# Altium integrated library ON Semi Logic Translator.IntLib: 79 symbols (part 2 of 2)
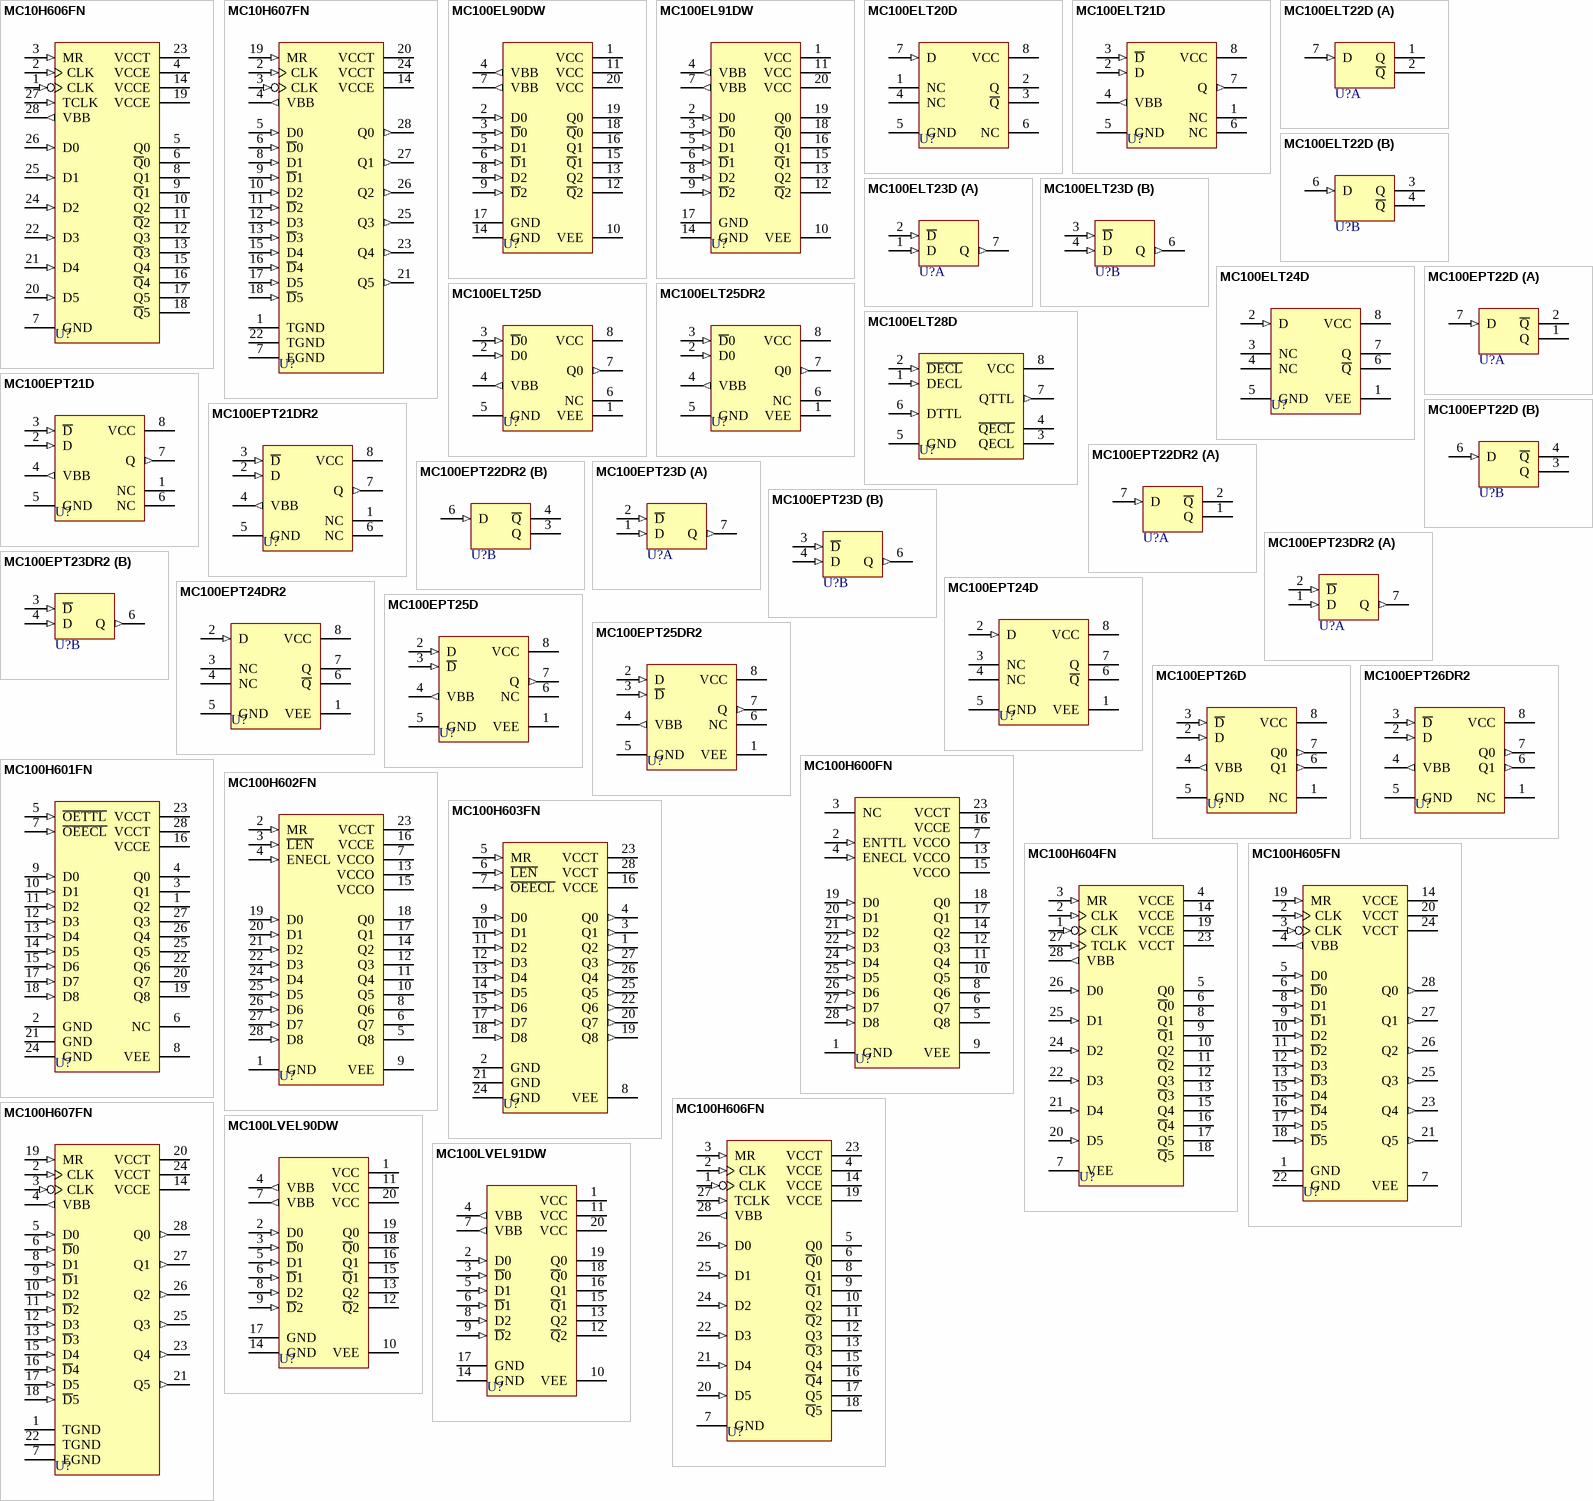
[diagram p3: symbols MC10H606FN to MC100LVEL91DW]

## MC100EPT23DR2
designator U?
Dual Differential LVPECL to LVTTL Translator; Published: 15-Apr-2002; LatestRevisionDate: 13-Apr-2006; LatestRevisionNote: IPC-7351 Footprint Added.; DatasheetVersion: Sep-1999; PackageVersion: Sep-1999; PackageReference: 751-06; Publisher: Altium Limited; PackageDescription: 8-Pin Small Outline Integrated Circuit 1.27 mm Pitch; Code_JEDEC: MS-012-AA; Code_IPC: SOIC127P600-8; ComponentLink1Description: Manufacturer Link; ComponentLink1URL: http://www.onsemi.com/; ComponentLink2Description: Datasheet; ComponentLink2URL: http://www.onsemi.com/pub/Collateral/MC100EPT23-D.PDF
footprint 751-06_N (SOIC, 8-Leads, Body 4.9x3.9mm, Pitch 1.27mm, IPC Medium Density)
footprint 751-06_L (SOIC, 8-Leads, Body 4.9x3.9mm, Pitch 1.27mm, IPC High Density)
footprint 751-06_M (SOIC, 8-Leads, Body 4.9x3.9mm, Pitch 1.27mm, IPC Low Density)
pins on every part: 5 GND (power) hidden to GND, 8 VCC (power) hidden to VCC
part A pins: 1 D (in), 2 ~{D} (in), 7 Q (out)
part B pins: 3 ~{D} (in), 4 D (in), 6 Q (out)

## MC100EPT24D
designator U?
LVTTL/LVCMOS to Differential LVECL Translator; Published: 15-Apr-2002; LatestRevisionDate: 13-Apr-2006; LatestRevisionNote: IPC-7351 Footprint Added.; DatasheetVersion: Dec-1999; PackageVersion: Sep-1999; PackageReference: 751-06; Publisher: Altium Limited; PackageDescription: 8-Pin Small Outline Integrated Circuit 1.27 mm Pitch; Code_JEDEC: MS-012-AA; Code_IPC: SOIC127P600-8; ComponentLink1Description: Manufacturer Link; ComponentLink1URL: http://www.onsemi.com/; ComponentLink2Description: Datasheet; ComponentLink2URL: http://www.onsemi.com/pub/Collateral/MC100EPT24-D.PDF
footprint 751-06_N (SOIC, 8-Leads, Body 4.9x3.9mm, Pitch 1.27mm, IPC Medium Density)
footprint 751-06_L (SOIC, 8-Leads, Body 4.9x3.9mm, Pitch 1.27mm, IPC High Density)
footprint 751-06_M (SOIC, 8-Leads, Body 4.9x3.9mm, Pitch 1.27mm, IPC Low Density)
pins: 1 VEE (power), 2 D (in), 3 NC, 4 NC, 5 GND (power), 6 ~{Q} (oe), 7 Q (oe), 8 VCC (power)

## MC100EPT24DR2
designator U?
LVTTL/LVCMOS to Differential LVECL Translator; Published: 15-Apr-2002; LatestRevisionDate: 13-Apr-2006; LatestRevisionNote: IPC-7351 Footprint Added.; DatasheetVersion: Dec-1999; PackageVersion: Sep-1999; PackageReference: 751-06; Publisher: Altium Limited; PackageDescription: 8-Pin Small Outline Integrated Circuit 1.27 mm Pitch; Code_JEDEC: MS-012-AA; Code_IPC: SOIC127P600-8; ComponentLink1Description: Manufacturer Link; ComponentLink1URL: http://www.onsemi.com/; ComponentLink2Description: Datasheet; ComponentLink2URL: http://www.onsemi.com/pub/Collateral/MC100EPT24-D.PDF
footprint 751-06_N (SOIC, 8-Leads, Body 4.9x3.9mm, Pitch 1.27mm, IPC Medium Density)
footprint 751-06_L (SOIC, 8-Leads, Body 4.9x3.9mm, Pitch 1.27mm, IPC High Density)
footprint 751-06_M (SOIC, 8-Leads, Body 4.9x3.9mm, Pitch 1.27mm, IPC Low Density)
pins: 1 VEE (power), 2 D (in), 3 NC, 4 NC, 5 GND (power), 6 ~{Q} (oe), 7 Q (oe), 8 VCC (power)

## MC100EPT25D
designator U?
Differential LVECL/ECL to LVTTL Translator; Published: 15-Apr-2002; LatestRevisionDate: 13-Apr-2006; LatestRevisionNote: IPC-7351 Footprint Added.; DatasheetVersion: Dec-1999; PackageVersion: Sep-1999; PackageReference: 751-06; Publisher: Altium Limited; PackageDescription: 8-Pin Small Outline Integrated Circuit 1.27 mm Pitch; Code_JEDEC: MS-012-AA; Code_IPC: SOIC127P600-8; ComponentLink1Description: Manufacturer Link; ComponentLink1URL: http://www.onsemi.com/; ComponentLink2Description: Datasheet; ComponentLink2URL: http://www.onsemi.com/pub/Collateral/MC100EPT25-D.PDF
footprint 751-06_N (SOIC, 8-Leads, Body 4.9x3.9mm, Pitch 1.27mm, IPC Medium Density)
footprint 751-06_L (SOIC, 8-Leads, Body 4.9x3.9mm, Pitch 1.27mm, IPC High Density)
footprint 751-06_M (SOIC, 8-Leads, Body 4.9x3.9mm, Pitch 1.27mm, IPC Low Density)
pins: 1 VEE (power), 2 D (in), 3 ~{D} (in), 4 VBB (out), 5 GND (power), 6 NC, 7 Q (out), 8 VCC (power)

## MC100EPT25DR2
designator U?
Differential LVECL/ECL to LVTTL Translator; Published: 15-Apr-2002; LatestRevisionDate: 13-Apr-2006; LatestRevisionNote: IPC-7351 Footprint Added.; DatasheetVersion: Dec-1999; PackageVersion: Sep-1999; PackageReference: 751-06; Publisher: Altium Limited; PackageDescription: 8-Pin Small Outline Integrated Circuit 1.27 mm Pitch; Code_JEDEC: MS-012-AA; Code_IPC: SOIC127P600-8; ComponentLink1Description: Manufacturer Link; ComponentLink1URL: http://www.onsemi.com/; ComponentLink2Description: Datasheet; ComponentLink2URL: http://www.onsemi.com/pub/Collateral/MC100EPT25-D.PDF
footprint 751-06_N (SOIC, 8-Leads, Body 4.9x3.9mm, Pitch 1.27mm, IPC Medium Density)
footprint 751-06_L (SOIC, 8-Leads, Body 4.9x3.9mm, Pitch 1.27mm, IPC High Density)
footprint 751-06_M (SOIC, 8-Leads, Body 4.9x3.9mm, Pitch 1.27mm, IPC Low Density)
pins: 1 VEE (power), 2 D (in), 3 ~{D} (in), 4 VBB (out), 5 GND (power), 6 NC, 7 Q (out), 8 VCC (power)

## MC100EPT26D
designator U?
1:2 Fanout Differential LVPECL to LVTTL Translator; Published: 15-Apr-2002; LatestRevisionDate: 13-Apr-2006; LatestRevisionNote: IPC-7351 Footprint Added.; DatasheetVersion: Sep-1999; PackageVersion: Sep-1999; PackageReference: 751-06; Publisher: Altium Limited; PackageDescription: 8-Pin Small Outline Integrated Circuit 1.27 mm Pitch; Code_JEDEC: MS-012-AA; Code_IPC: SOIC127P600-8; ComponentLink1Description: Manufacturer Link; ComponentLink1URL: http://www.onsemi.com/; ComponentLink2Description: Datasheet; ComponentLink2URL: http://www.onsemi.com/pub/Collateral/MC100EPT26-D.PDF
footprint 751-06_N (SOIC, 8-Leads, Body 4.9x3.9mm, Pitch 1.27mm, IPC Medium Density)
footprint 751-06_L (SOIC, 8-Leads, Body 4.9x3.9mm, Pitch 1.27mm, IPC High Density)
footprint 751-06_M (SOIC, 8-Leads, Body 4.9x3.9mm, Pitch 1.27mm, IPC Low Density)
pins: 1 NC, 2 D (in), 3 ~{D} (in), 4 VBB (out), 5 GND (power), 6 Q1 (out), 7 Q0 (out), 8 VCC (power)

## MC100EPT26DR2
designator U?
1:2 Fanout Differential LVPECL to LVTTL Translator; Published: 15-Apr-2002; LatestRevisionDate: 13-Apr-2006; LatestRevisionNote: IPC-7351 Footprint Added.; DatasheetVersion: Sep-1999; PackageVersion: Sep-1999; PackageReference: 751-06; Publisher: Altium Limited; PackageDescription: 8-Pin Small Outline Integrated Circuit 1.27 mm Pitch; Code_JEDEC: MS-012-AA; Code_IPC: SOIC127P600-8; ComponentLink1Description: Manufacturer Link; ComponentLink1URL: http://www.onsemi.com/; ComponentLink2Description: Datasheet; ComponentLink2URL: http://www.onsemi.com/pub/Collateral/MC100EPT26-D.PDF
footprint 751-06_N (SOIC, 8-Leads, Body 4.9x3.9mm, Pitch 1.27mm, IPC Medium Density)
footprint 751-06_L (SOIC, 8-Leads, Body 4.9x3.9mm, Pitch 1.27mm, IPC High Density)
footprint 751-06_M (SOIC, 8-Leads, Body 4.9x3.9mm, Pitch 1.27mm, IPC Low Density)
pins: 1 NC, 2 D (in), 3 ~{D} (in), 4 VBB (out), 5 GND (power), 6 Q1 (out), 7 Q0 (out), 8 VCC (power)

## MC100H600FN
designator U?
9-Bit TTL-ECL Translator; Published: 15-Apr-2002; LatestRevisionDate: 13-Apr-2006; LatestRevisionNote: IPC-7351 Footprint Added.; DatasheetVersion: 1996; PackageVersion: Feb-2000; PackageReference: 776-02; Publisher: Altium Limited; PackageDescription: 28-Pin Leaded Chip Carrier 1.27 mm Pitch; ComponentLink1Description: Manufacturer Link; ComponentLink1URL: http://www.onsemi.com/; ComponentLink2Description: Datasheet; ComponentLink2URL: http://www.onsemi.com/pub/Collateral/MC10H600-D.PDF
footprint 776-02_N (Leaded Chip Carrier, 28-Leads, Body 11.5x11.5mm, Pitch 1.27mm, IPC Medium Density)
footprint 776-02_L (Leaded Chip Carrier, 28-Leads, Body 11.5x11.5mm, Pitch 1.27mm, IPC High Density)
footprint 776-02_M (Leaded Chip Carrier, 28-Leads, Body 11.5x11.5mm, Pitch 1.27mm, IPC Low Density)
pins: 1 GND (power), 2 ENTTL (in), 3 NC, 4 ENECL (in), 5 Q8 (oe), 6 Q7 (oe), 7 VCCO (power), 8 Q6 (oe), 9 VEE (power), 10 Q5 (oe), 11 Q4 (oe), 12 Q3 (oe), 13 VCCO (power), 14 Q2 (oe), 15 VCCO (power), 16 VCCE (power), 17 Q1 (oe), 18 Q0 (oe), 19 D0 (in), 20 D1 (in), 21 D2 (in), 22 D3 (in), 23 VCCT (power), 24 D4 (in), 25 D5 (in), 26 D6 (in), 27 D7 (in), 28 D8 (in)

## MC100H601FN
designator U?
9-Bit ECL-TTL Translator; Published: 15-Apr-2002; LatestRevisionDate: 13-Apr-2006; LatestRevisionNote: IPC-7351 Footprint Added.; DatasheetVersion: 1997; PackageVersion: Feb-2000; PackageReference: 776-02; Publisher: Altium Limited; PackageDescription: 28-Pin Leaded Chip Carrier 1.27 mm Pitch; ComponentLink1Description: Manufacturer Link; ComponentLink1URL: http://www.onsemi.com/; ComponentLink2Description: Datasheet; ComponentLink2URL: http://www.onsemi.com/pub/Collateral/MC10H601-D.PDF
footprint 776-02_N (Leaded Chip Carrier, 28-Leads, Body 11.5x11.5mm, Pitch 1.27mm, IPC Medium Density)
footprint 776-02_L (Leaded Chip Carrier, 28-Leads, Body 11.5x11.5mm, Pitch 1.27mm, IPC High Density)
footprint 776-02_M (Leaded Chip Carrier, 28-Leads, Body 11.5x11.5mm, Pitch 1.27mm, IPC Low Density)
pins: 1 Q2 (hiz), 2 GND (power), 3 Q1 (hiz), 4 Q0 (hiz), 5 ~{OETTL} (in), 6 NC, 7 ~{OEECL} (in), 8 VEE (power), 9 D0 (in), 10 D1 (in), 11 D2 (in), 12 D3 (in), 13 D4 (in), 14 D5 (in), 15 D6 (in), 16 VCCE (power), 17 D7 (in), 18 D8 (in), 19 Q8 (hiz), 20 Q7 (hiz), 21 GND (power), 22 Q6 (hiz), 23 VCCT (power), 24 GND (power), 25 Q5 (hiz), 26 Q4 (hiz), 27 Q3 (hiz), 28 VCCT (power)

## MC100H602FN
designator U?
9-Bit Latch/TTL-ECL Translator; Published: 15-Apr-2002; LatestRevisionDate: 13-Apr-2006; LatestRevisionNote: IPC-7351 Footprint Added.; DatasheetVersion: 1996; PackageVersion: Feb-2000; PackageReference: 776-02; Publisher: Altium Limited; PackageDescription: 28-Pin Leaded Chip Carrier 1.27 mm Pitch; ComponentLink1Description: Manufacturer Link; ComponentLink1URL: http://www.onsemi.com/; ComponentLink2Description: Datasheet; ComponentLink2URL: http://www.onsemi.com/pub/Collateral/MC10H602-D.PDF
footprint 776-02_N (Leaded Chip Carrier, 28-Leads, Body 11.5x11.5mm, Pitch 1.27mm, IPC Medium Density)
footprint 776-02_L (Leaded Chip Carrier, 28-Leads, Body 11.5x11.5mm, Pitch 1.27mm, IPC High Density)
footprint 776-02_M (Leaded Chip Carrier, 28-Leads, Body 11.5x11.5mm, Pitch 1.27mm, IPC Low Density)
pins: 1 GND (power), 2 MR (in), 3 ~{LEN} (in), 4 ENECL (in), 5 Q8 (oe), 6 Q7 (oe), 7 VCCO (power), 8 Q6 (oe), 9 VEE (power), 10 Q5 (oe), 11 Q4 (oe), 12 Q3 (oe), 13 VCCO (power), 14 Q2 (oe), 15 VCCO (power), 16 VCCE (power), 17 Q1 (oe), 18 Q0 (oe), 19 D0 (in), 20 D1 (in), 21 D2 (in), 22 D3 (in), 23 VCCT (power), 24 D4 (in), 25 D5 (in), 26 D6 (in), 27 D7 (in), 28 D8 (in)

## MC100H603FN
designator U?
9-Bit Latch/ECL-TTL Translator; Published: 15-Apr-2002; LatestRevisionDate: 13-Apr-2006; LatestRevisionNote: IPC-7351 Footprint Added.; DatasheetVersion: 1996; PackageVersion: Feb-2000; PackageReference: 776-02; Publisher: Altium Limited; PackageDescription: 28-Pin Leaded Chip Carrier 1.27 mm Pitch; ComponentLink1Description: Manufacturer Link; ComponentLink1URL: http://www.onsemi.com/; ComponentLink2Description: Datasheet; ComponentLink2URL: http://www.onsemi.com/pub/Collateral/MC10H603-D.PDF
footprint 776-02_N (Leaded Chip Carrier, 28-Leads, Body 11.5x11.5mm, Pitch 1.27mm, IPC Medium Density)
footprint 776-02_L (Leaded Chip Carrier, 28-Leads, Body 11.5x11.5mm, Pitch 1.27mm, IPC High Density)
footprint 776-02_M (Leaded Chip Carrier, 28-Leads, Body 11.5x11.5mm, Pitch 1.27mm, IPC Low Density)
pins: 1 Q2 (out), 2 GND (power), 3 Q1 (out), 4 Q0 (out), 5 MR (in), 6 ~{LEN} (in), 7 ~{OEECL} (in), 8 VEE (power), 9 D0 (in), 10 D1 (in), 11 D2 (in), 12 D3 (in), 13 D4 (in), 14 D5 (in), 15 D6 (in), 16 VCCE (power), 17 D7 (in), 18 D8 (in), 19 Q8 (out), 20 Q7 (out), 21 GND (power), 22 Q6 (out), 23 VCCT (power), 24 GND (power), 25 Q5 (out), 26 Q4 (out), 27 Q3 (out), 28 VCCT (power)

## MC100H604FN
designator U?
Registered Hex TTL/ECL Translator; Published: 15-Apr-2002; LatestRevisionDate: 13-Apr-2006; LatestRevisionNote: IPC-7351 Footprint Added.; DatasheetVersion: 1996; PackageVersion: Feb-2000; PackageReference: 776-02; Publisher: Altium Limited; PackageDescription: 28-Pin Leaded Chip Carrier 1.27 mm Pitch; ComponentLink1Description: Manufacturer Link; ComponentLink1URL: http://www.onsemi.com/; ComponentLink2Description: Datasheet; ComponentLink2URL: http://www.onsemi.com/pub/Collateral/MC10H604-D.PDF
footprint 776-02_N (Leaded Chip Carrier, 28-Leads, Body 11.5x11.5mm, Pitch 1.27mm, IPC Medium Density)
footprint 776-02_L (Leaded Chip Carrier, 28-Leads, Body 11.5x11.5mm, Pitch 1.27mm, IPC High Density)
footprint 776-02_M (Leaded Chip Carrier, 28-Leads, Body 11.5x11.5mm, Pitch 1.27mm, IPC Low Density)
pins: 1 CLK (in), 2 CLK (in), 3 MR (in), 4 VCCE (power), 5 Q0 (oe), 6 ~{Q}0 (oe), 7 VEE (power), 8 Q1 (oe), 9 ~{Q}1 (oe), 10 Q2 (oe), 11 ~{Q}2 (oe), 12 Q3 (oe), 13 ~{Q}3 (oe), 14 VCCE (power), 15 Q4 (oe), 16 ~{Q}4 (oe), 17 Q5 (oe), 18 ~{Q}5 (oe), 19 VCCE (power), 20 D5 (in), 21 D4 (in), 22 D3 (in), 23 VCCT (power), 24 D2 (in), 25 D1 (in), 26 D0 (in), 27 TCLK (in), 28 VBB (out)

## MC100H605FN
designator U?
Registered Hex ECL/TTL Translator; Published: 15-Apr-2002; LatestRevisionDate: 13-Apr-2006; LatestRevisionNote: IPC-7351 Footprint Added.; DatasheetVersion: 1996; PackageVersion: Feb-2000; PackageReference: 776-02; Publisher: Altium Limited; PackageDescription: 28-Pin Leaded Chip Carrier 1.27 mm Pitch; ComponentLink1Description: Manufacturer Link; ComponentLink1URL: http://www.onsemi.com/; ComponentLink2Description: Datasheet; ComponentLink2URL: http://www.onsemi.com/pub/Collateral/MC10H605-D.PDF
footprint 776-02_N (Leaded Chip Carrier, 28-Leads, Body 11.5x11.5mm, Pitch 1.27mm, IPC Medium Density)
footprint 776-02_L (Leaded Chip Carrier, 28-Leads, Body 11.5x11.5mm, Pitch 1.27mm, IPC High Density)
footprint 776-02_M (Leaded Chip Carrier, 28-Leads, Body 11.5x11.5mm, Pitch 1.27mm, IPC Low Density)
pins: 1 GND (power), 2 CLK (in), 3 CLK (in), 4 VBB (out), 5 D0 (in), 6 ~{D}0 (in), 7 VEE (power), 8 D1 (in), 9 ~{D}1 (in), 10 D2 (in), 11 ~{D}2 (in), 12 D3 (in), 13 ~{D}3 (in), 14 VCCE (power), 15 D4 (in), 16 ~{D}4 (in), 17 D5 (in), 18 ~{D}5 (in), 19 MR (in), 20 VCCT (power), 21 Q5 (out), 22 GND (power), 23 Q4 (out), 24 VCCT (power), 25 Q3 (out), 26 Q2 (out), 27 Q1 (out), 28 Q0 (out)

## MC100H606FN
designator U?
Registered Hex TTL/PECL Translator; Published: 15-Apr-2002; LatestRevisionDate: 13-Apr-2006; LatestRevisionNote: IPC-7351 Footprint Added.; DatasheetVersion: 1996; PackageVersion: Feb-2000; PackageReference: 776-02; Publisher: Altium Limited; PackageDescription: 28-Pin Leaded Chip Carrier 1.27 mm Pitch; ComponentLink1Description: Manufacturer Link; ComponentLink1URL: http://www.onsemi.com/; ComponentLink2Description: Datasheet; ComponentLink2URL: http://www.onsemi.com/pub/Collateral/MC10H606-D.PDF
footprint 776-02_N (Leaded Chip Carrier, 28-Leads, Body 11.5x11.5mm, Pitch 1.27mm, IPC Medium Density)
footprint 776-02_L (Leaded Chip Carrier, 28-Leads, Body 11.5x11.5mm, Pitch 1.27mm, IPC High Density)
footprint 776-02_M (Leaded Chip Carrier, 28-Leads, Body 11.5x11.5mm, Pitch 1.27mm, IPC Low Density)
pins: 1 CLK (in), 2 CLK (in), 3 MR (in), 4 VCCE (power), 5 Q0 (oe), 6 ~{Q}0 (oe), 7 GND (power), 8 Q1 (oe), 9 ~{Q}1 (oe), 10 Q2 (oe), 11 ~{Q}2 (oe), 12 Q3 (oe), 13 ~{Q}3 (oe), 14 VCCE (power), 15 Q4 (oe), 16 ~{Q}4 (oe), 17 Q5 (oe), 18 ~{Q}5 (oe), 19 VCCE (power), 20 D5 (in), 21 D4 (in), 22 D3 (in), 23 VCCT (power), 24 D2 (in), 25 D1 (in), 26 D0 (in), 27 TCLK (in), 28 VBB (out)

## MC100H607FN
designator U?
Registered Hex PECL/TTL Translator; Published: 15-Apr-2002; LatestRevisionDate: 13-Apr-2006; LatestRevisionNote: IPC-7351 Footprint Added.; DatasheetVersion: 1996; PackageVersion: Feb-2000; PackageReference: 776-02; Publisher: Altium Limited; PackageDescription: 28-Pin Leaded Chip Carrier 1.27 mm Pitch; ComponentLink1Description: Manufacturer Link; ComponentLink1URL: http://www.onsemi.com/; ComponentLink2Description: Datasheet; ComponentLink2URL: http://www.onsemi.com/pub/Collateral/MC10H607-D.PDF
footprint 776-02_N (Leaded Chip Carrier, 28-Leads, Body 11.5x11.5mm, Pitch 1.27mm, IPC Medium Density)
footprint 776-02_L (Leaded Chip Carrier, 28-Leads, Body 11.5x11.5mm, Pitch 1.27mm, IPC High Density)
footprint 776-02_M (Leaded Chip Carrier, 28-Leads, Body 11.5x11.5mm, Pitch 1.27mm, IPC Low Density)
pins: 1 TGND (power), 2 CLK (in), 3 CLK (in), 4 VBB (out), 5 D0 (in), 6 ~{D}0 (in), 7 EGND (power), 8 D1 (in), 9 ~{D}1 (in), 10 D2 (in), 11 ~{D}2 (in), 12 D3 (in), 13 ~{D}3 (in), 14 VCCE (power), 15 D4 (in), 16 ~{D}4 (in), 17 D5 (in), 18 ~{D}5 (in), 19 MR (in), 20 VCCT (power), 21 Q5 (out), 22 TGND (power), 23 Q4 (out), 24 VCCT (power), 25 Q3 (out), 26 Q2 (out), 27 Q1 (out), 28 Q0 (out)

## MC100LVEL90DW
designator U?
Triple ECL to PECL Translator; Published: 15-Apr-2002; LatestRevisionDate: 13-Apr-2006; LatestRevisionNote: IPC-7351 Footprint Added.; DatasheetVersion: 1996; PackageReference: 751D-04; Publisher: Altium Limited; PackageDescription: 20-Pin Small Outline Integrated Circuit 1.27 mm Pitch; ComponentLink1Description: Manufacturer Link; ComponentLink1URL: http://www.onsemi.com/; ComponentLink2Description: Datasheet; ComponentLink2URL: http://www.onsemi.com/pub/Collateral/MC100LVEL90-D.PDF
footprint 751D-04_N (SOIC, 20-Leads, Body 12.8x7.5mm, Pitch 1.27mm, IPC Medium Density)
footprint 751D-04_L (SOIC, 20-Leads, Body 12.8x7.5mm, Pitch 1.27mm, IPC High Density)
footprint 751D-04_M (SOIC, 20-Leads, Body 12.8x7.5mm, Pitch 1.27mm, IPC Low Density)
pins: 1 VCC (power), 2 D0 (in), 3 ~{D}0 (in), 4 VBB (out), 5 D1 (in), 6 ~{D}1 (in), 7 VBB (out), 8 D2 (in), 9 ~{D}2 (in), 10 VEE (power), 11 VCC (power), 12 ~{Q}2 (oe), 13 Q2 (oe), 14 GND (power), 15 ~{Q}1 (oe), 16 Q1 (oe), 17 GND (power), 18 ~{Q}0 (oe), 19 Q0 (oe), 20 VCC (power)

## MC100LVEL91DW
designator U?
Triple PECL to ECL Translator; Published: 15-Apr-2002; LatestRevisionDate: 13-Apr-2006; LatestRevisionNote: IPC-7351 Footprint Added.; DatasheetVersion: 1997; PackageReference: 751D-04; Publisher: Altium Limited; PackageDescription: 20-Pin Small Outline Integrated Circuit 1.27 mm Pitch; ComponentLink1Description: Manufacturer Link; ComponentLink1URL: http://www.onsemi.com/; ComponentLink2Description: Datasheet; ComponentLink2URL: http://www.onsemi.com/pub/Collateral/MC100LVEL91-D.PDF
footprint 751D-04_N (SOIC, 20-Leads, Body 12.8x7.5mm, Pitch 1.27mm, IPC Medium Density)
footprint 751D-04_L (SOIC, 20-Leads, Body 12.8x7.5mm, Pitch 1.27mm, IPC High Density)
footprint 751D-04_M (SOIC, 20-Leads, Body 12.8x7.5mm, Pitch 1.27mm, IPC Low Density)
pins: 1 VCC (power), 2 D0 (in), 3 ~{D}0 (in), 4 VBB (out), 5 D1 (in), 6 ~{D}1 (in), 7 VBB (out), 8 D2 (in), 9 ~{D}2 (in), 10 VEE (power), 11 VCC (power), 12 ~{Q}2 (oe), 13 Q2 (oe), 14 GND (power), 15 ~{Q}1 (oe), 16 Q1 (oe), 17 GND (power), 18 ~{Q}0 (oe), 19 Q0 (oe), 20 VCC (power)

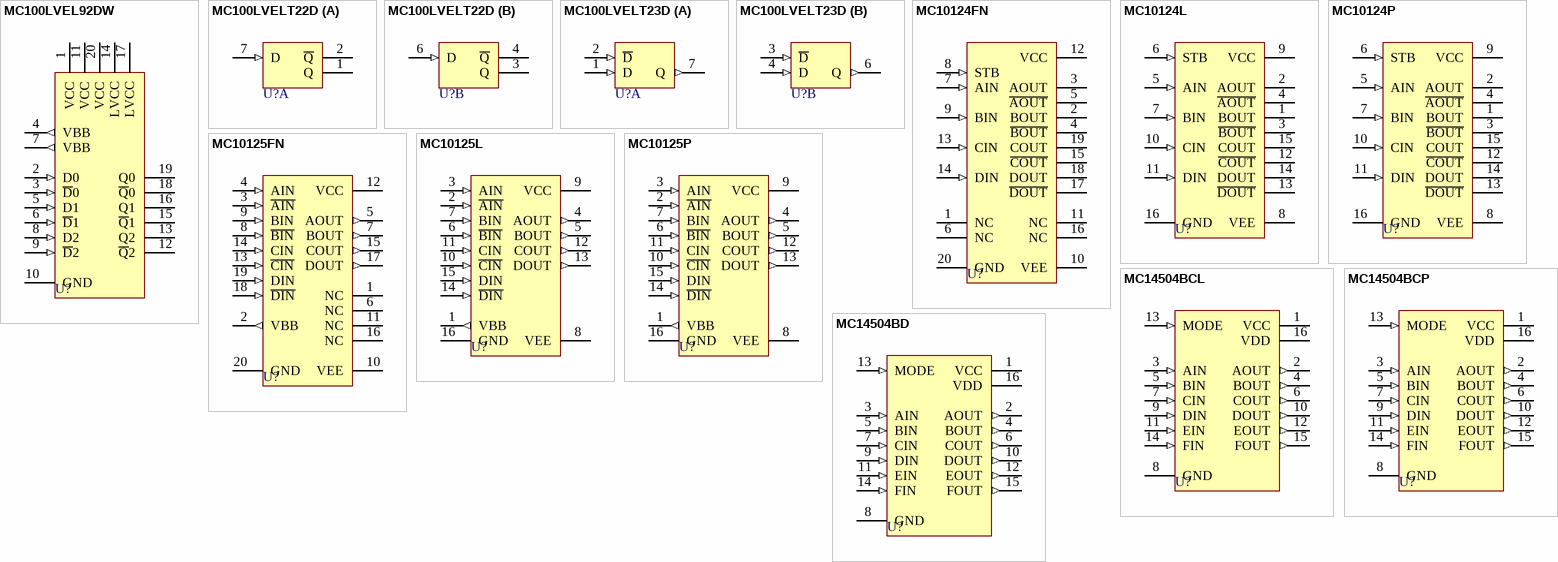
[diagram p2: symbols MC100LVEL92DW to MC14504BD]

## MC100LVEL92DW
designator U?
Triple PECL to LVPECL Translator; Published: 15-Apr-2002; LatestRevisionDate: 13-Apr-2006; LatestRevisionNote: IPC-7351 Footprint Added.; DatasheetVersion: 1997; PackageReference: 751D-04; Publisher: Altium Limited; PackageDescription: 20-Pin Small Outline Integrated Circuit 1.27 mm Pitch; ComponentLink1Description: Manufacturer Link; ComponentLink1URL: http://www.onsemi.com/; ComponentLink2Description: Datasheet; ComponentLink2URL: http://www.onsemi.com/pub/Collateral/MC100LVEL92-D.PDF
footprint 751D-04_N (SOIC, 20-Leads, Body 12.8x7.5mm, Pitch 1.27mm, IPC Medium Density)
footprint 751D-04_L (SOIC, 20-Leads, Body 12.8x7.5mm, Pitch 1.27mm, IPC High Density)
footprint 751D-04_M (SOIC, 20-Leads, Body 12.8x7.5mm, Pitch 1.27mm, IPC Low Density)
pins: 1 VCC (power), 2 D0 (in), 3 ~{D}0 (in), 4 VBB (out), 5 D1 (in), 6 ~{D}1 (in), 7 VBB (out), 8 D2 (in), 9 ~{D}2 (in), 10 GND (power), 11 VCC (power), 12 ~{Q}2 (oe), 13 Q2 (oe), 14 LVCC (power), 15 ~{Q}1 (oe), 16 Q1 (oe), 17 LVCC (power), 18 ~{Q}0 (oe), 19 Q0 (oe), 20 VCC (power)

## MC100LVELT22D
designator U?
Dual LVTTL/LVCMOS to Differential LVPECL Translator; Published: 15-Apr-2002; LatestRevisionDate: 13-Apr-2006; LatestRevisionNote: IPC-7351 Footprint Added.; DatasheetVersion: 1996; PackageVersion: 1998; PackageReference: 751-05; Publisher: Altium Limited; PackageDescription: 8-Pin Small Outline Integrated Circuit 1.27 mm Pitch; Code_JEDEC: MS-012-AA; Code_IPC: SOIC127P600-8; ComponentLink1Description: Manufacturer Link; ComponentLink1URL: http://www.onsemi.com/; ComponentLink2Description: Datasheet; ComponentLink2URL: http://www.onsemi.com/pub/Collateral/MC100LVELT22-D.PDF
footprint 751-05_N (SOIC, 8-Leads, Body 4.9x3.9mm, Pitch 1.27mm, IPC Medium Density)
footprint 751-05_L (SOIC, 8-Leads, Body 4.9x3.9mm, Pitch 1.27mm, IPC High Density)
footprint 751-05_M (SOIC, 8-Leads, Body 4.9x3.9mm, Pitch 1.27mm, IPC Low Density)
pins on every part: 5 GND (power) hidden to GND, 8 VCC (power) hidden to VCC
part A pins: 1 Q (oe), 2 ~{Q} (oe), 7 D (in)
part B pins: 3 Q (oe), 4 ~{Q} (oe), 6 D (in)

## MC100LVELT23D
designator U?
Dual Differential LVPECL to TTL Translator; Published: 15-Apr-2002; LatestRevisionDate: 13-Apr-2006; LatestRevisionNote: IPC-7351 Footprint Added.; DatasheetVersion: 1999; PackageVersion: Sep-1999; PackageReference: 751-06; Publisher: Altium Limited; PackageDescription: 8-Pin Small Outline Integrated Circuit 1.27 mm Pitch; Code_JEDEC: MS-012-AA; Code_IPC: SOIC127P600-8; ComponentLink1Description: Manufacturer Link; ComponentLink1URL: http://www.onsemi.com/; ComponentLink2Description: Datasheet; ComponentLink2URL: http://www.onsemi.com/pub/Collateral/MC100LVELT23-D.PDF
footprint 751-06_N (SOIC, 8-Leads, Body 4.9x3.9mm, Pitch 1.27mm, IPC Medium Density)
footprint 751-06_L (SOIC, 8-Leads, Body 4.9x3.9mm, Pitch 1.27mm, IPC High Density)
footprint 751-06_M (SOIC, 8-Leads, Body 4.9x3.9mm, Pitch 1.27mm, IPC Low Density)
pins on every part: 5 GND (power) hidden to GND, 8 VCC (power) hidden to VCC
part A pins: 1 D (in), 2 ~{D} (in), 7 Q (out)
part B pins: 3 ~{D} (in), 4 D (in), 6 Q (out)

## MC10124FN
designator U?
Quad TTL to MECL Translator; ComponentAvailability: Not for New Design; Published: 15-Apr-2002; LatestRevisionDate: 13-Apr-2006; LatestRevisionNote: IPC-7351 Footprint Added.; DatasheetVersion: 1996; PackageVersion: 1996; PackageReference: 775-02; Publisher: Altium Limited; PackageDescription: 20-Pin Leaded Chip Carrier 1.27 mm Pitch; ComponentLink1Description: Manufacturer Link; ComponentLink1URL: http://www.onsemi.com/; ComponentLink2Description: Datasheet; ComponentLink2URL: http://www.onsemi.com/pub/Collateral/MC10124-D.PDF
footprint 775-02_N (Leaded Chip Carrier, 20-Leads, Body 9x9mm, Pitch 1.27mm, IPC Medium Density)
footprint 775-02_L (Leaded Chip Carrier, 20-Leads, Body 9x9mm, Pitch 1.27mm, IPC High Density)
footprint 775-02_M (Leaded Chip Carrier, 20-Leads, Body 9x9mm, Pitch 1.27mm, IPC Low Density)
pins: 1 NC, 2 BOUT (oe), 3 AOUT (oe), 4 ~{BOUT} (oe), 5 ~{AOUT} (oe), 6 NC, 7 AIN (in), 8 STB (in), 9 BIN (in), 10 VEE (power), 11 NC, 12 VCC (power), 13 CIN (in), 14 DIN (in), 15 ~{COUT} (oe), 16 NC, 17 ~{DOUT} (oe), 18 DOUT (oe), 19 COUT (oe), 20 GND (power)

## MC10124L
designator U?
Quad TTL to MECL Translator; ComponentAvailability: Not for New Design; Published: 15-Apr-2002; DatasheetVersion: 1996; PackageVersion: 1996; PackageReference: 620-10; Publisher: Altium Limited; PackageDescription: DIP; 16 Leads; Row Spacing 7.62 mm; Pitch 2.54 mm; ComponentLink1Description: Manufacturer Link; ComponentLink1URL: http://www.onsemi.com/; ComponentLink2Description: Datasheet; ComponentLink2URL: http://www.onsemi.com/pub/Collateral/MC10124-D.PDF
footprint 620-10 (DIP; 16 Leads; Row Spacing 7.62 mm; Pitch 2.54 mm)
pins: 1 BOUT (oe), 2 AOUT (oe), 3 ~{BOUT} (oe), 4 ~{AOUT} (oe), 5 AIN (in), 6 STB (in), 7 BIN (in), 8 VEE (power), 9 VCC (power), 10 CIN (in), 11 DIN (in), 12 ~{COUT} (oe), 13 ~{DOUT} (oe), 14 DOUT (oe), 15 COUT (oe), 16 GND (power)

## MC10124P
designator U?
Quad TTL to MECL Translator; ComponentAvailability: Not for New Design; Published: 15-Apr-2002; DatasheetVersion: 1996; PackageVersion: Apr-2000; PackageReference: 648-08; Publisher: Altium Limited; PackageDescription: DIP; 16 Leads; Row Spacing 7.62 mm; Pitch 2.54 mm; Code_JEDEC: MS-001-BB; ComponentLink1Description: Manufacturer Link; ComponentLink1URL: http://www.onsemi.com/; ComponentLink2Description: Datasheet; ComponentLink2URL: http://www.onsemi.com/pub/Collateral/MC10124-D.PDF
footprint 648-08 (DIP; 16 Leads; Row Spacing 7.62 mm; Pitch 2.54 mm)
pins: 1 BOUT (oe), 2 AOUT (oe), 3 ~{BOUT} (oe), 4 ~{AOUT} (oe), 5 AIN (in), 6 STB (in), 7 BIN (in), 8 VEE (power), 9 VCC (power), 10 CIN (in), 11 DIN (in), 12 ~{COUT} (oe), 13 ~{DOUT} (oe), 14 DOUT (oe), 15 COUT (oe), 16 GND (power)

## MC10125FN
designator U?
Quad MECL to TTL Translator; ComponentAvailability: Not for New Design; Published: 15-Apr-2002; LatestRevisionDate: 13-Apr-2006; LatestRevisionNote: IPC-7351 Footprint Added.; DatasheetVersion: 1996; PackageVersion: 1996; PackageReference: 775-02; Publisher: Altium Limited; PackageDescription: 20-Pin Leaded Chip Carrier 1.27 mm Pitch; ComponentLink1Description: Manufacturer Link; ComponentLink1URL: http://www.onsemi.com/; ComponentLink2Description: Datasheet; ComponentLink2URL: http://www.onsemi.com/pub/Collateral/MC10H125-D.PDF
footprint 775-02_N (Leaded Chip Carrier, 20-Leads, Body 9x9mm, Pitch 1.27mm, IPC Medium Density)
footprint 775-02_L (Leaded Chip Carrier, 20-Leads, Body 9x9mm, Pitch 1.27mm, IPC High Density)
footprint 775-02_M (Leaded Chip Carrier, 20-Leads, Body 9x9mm, Pitch 1.27mm, IPC Low Density)
pins: 1 NC, 2 VBB (out), 3 ~{AIN} (in), 4 AIN (in), 5 AOUT (out), 6 NC, 7 BOUT (out), 8 ~{BIN} (in), 9 BIN (in), 10 VEE (power), 11 NC, 12 VCC (power), 13 ~{CIN} (in), 14 CIN (in), 15 COUT (out), 16 NC, 17 DOUT (out), 18 ~{DIN} (in), 19 DIN (in), 20 GND (power)

## MC10125L
designator U?
Quad MECL to TTL Translator; ComponentAvailability: Not for New Design; Published: 15-Apr-2002; DatasheetVersion: 1996; PackageVersion: 1996; PackageReference: 620-10; Publisher: Altium Limited; PackageDescription: DIP; 16 Leads; Row Spacing 7.62 mm; Pitch 2.54 mm; ComponentLink1Description: Manufacturer Link; ComponentLink1URL: http://www.onsemi.com/; ComponentLink2Description: Datasheet; ComponentLink2URL: http://www.onsemi.com/pub/Collateral/MC10H125-D.PDF
footprint 620-10 (DIP; 16 Leads; Row Spacing 7.62 mm; Pitch 2.54 mm)
pins: 1 VBB (out), 2 ~{AIN} (in), 3 AIN (in), 4 AOUT (out), 5 BOUT (out), 6 ~{BIN} (in), 7 BIN (in), 8 VEE (power), 9 VCC (power), 10 ~{CIN} (in), 11 CIN (in), 12 COUT (out), 13 DOUT (out), 14 ~{DIN} (in), 15 DIN (in), 16 GND (power)

## MC10125P
designator U?
Quad MECL to TTL Translator; ComponentAvailability: Not for New Design; Published: 15-Apr-2002; DatasheetVersion: 1996; PackageVersion: Apr-2000; PackageReference: 648-08; Publisher: Altium Limited; PackageDescription: DIP; 16 Leads; Row Spacing 7.62 mm; Pitch 2.54 mm; Code_JEDEC: MS-001-BB; ComponentLink1Description: Manufacturer Link; ComponentLink1URL: http://www.onsemi.com/; ComponentLink2Description: Datasheet; ComponentLink2URL: http://www.onsemi.com/pub/Collateral/MC10H125-D.PDF
footprint 648-08 (DIP; 16 Leads; Row Spacing 7.62 mm; Pitch 2.54 mm)
pins: 1 VBB (out), 2 ~{AIN} (in), 3 AIN (in), 4 AOUT (out), 5 BOUT (out), 6 ~{BIN} (in), 7 BIN (in), 8 VEE (power), 9 VCC (power), 10 ~{CIN} (in), 11 CIN (in), 12 COUT (out), 13 DOUT (out), 14 ~{DIN} (in), 15 DIN (in), 16 GND (power)

## MC14504BCL
designator U?
Hex Level Shifter for TTL-to-CMOS or CMOS-to-CMOS; Published: 15-Apr-2002; DatasheetVersion: 1995; PackageVersion: 1996; PackageReference: 620-10; Publisher: Altium Limited; PackageDescription: DIP; 16 Leads; Row Spacing 7.62 mm; Pitch 2.54 mm; ComponentLink1Description: Manufacturer Link; ComponentLink1URL: http://www.onsemi.com/; ComponentLink2Description: Datasheet; ComponentLink2URL: http://www.onsemi.com/pub/Collateral/MC14504B-D.PDF
footprint 620-10 (DIP; 16 Leads; Row Spacing 7.62 mm; Pitch 2.54 mm)
pins: 1 VCC (power), 2 AOUT (out), 3 AIN (in), 4 BOUT (out), 5 BIN (in), 6 COUT (out), 7 CIN (in), 8 GND (power), 9 DIN (in), 10 DOUT (out), 11 EIN (in), 12 EOUT (out), 13 MODE (in), 14 FIN (in), 15 FOUT (out), 16 VDD (power)

## MC14504BCP
designator U?
Hex Level Shifter for TTL-to-CMOS or CMOS-to-CMOS; Published: 15-Apr-2002; DatasheetVersion: 1995; PackageVersion: Apr-2000; PackageReference: 648-08; Publisher: Altium Limited; PackageDescription: DIP; 16 Leads; Row Spacing 7.62 mm; Pitch 2.54 mm; Code_JEDEC: MS-001-BB; ComponentLink1Description: Manufacturer Link; ComponentLink1URL: http://www.onsemi.com/; ComponentLink2Description: Datasheet; ComponentLink2URL: http://www.onsemi.com/pub/Collateral/MC14504B-D.PDF
footprint 648-08 (DIP; 16 Leads; Row Spacing 7.62 mm; Pitch 2.54 mm)
pins: 1 VCC (power), 2 AOUT (out), 3 AIN (in), 4 BOUT (out), 5 BIN (in), 6 COUT (out), 7 CIN (in), 8 GND (power), 9 DIN (in), 10 DOUT (out), 11 EIN (in), 12 EOUT (out), 13 MODE (in), 14 FIN (in), 15 FOUT (out), 16 VDD (power)

## MC14504BD
designator U?
Hex Level Shifter for TTL-to-CMOS or CMOS-to-CMOS; Published: 15-Apr-2002; LatestRevisionDate: 13-Apr-2006; LatestRevisionNote: IPC-7351 Footprint Added.; DatasheetVersion: 1995; PackageVersion: Oct-1999; PackageReference: 751B-05; Publisher: Altium Limited; PackageDescription: 16-Pin Small Outline Integrated Circuit 1.27 mm Pitch; Code_JEDEC: MS-012-AC; Code_IPC: SOIC127P600-16; ComponentLink1Description: Manufacturer Link; ComponentLink1URL: http://www.onsemi.com/; ComponentLink2Description: Datasheet; ComponentLink2URL: http://www.onsemi.com/pub/Collateral/MC14504B-D.PDF
footprint 751B-05_N (SOIC, 16-Leads, Body 9.9x3.9mm, Pitch 1.27mm, IPC Medium Density)
footprint 751B-05_L (SOIC, 16-Leads, Body 9.9x3.9mm, Pitch 1.27mm, IPC High Density)
footprint 751B-05_M (SOIC, 16-Leads, Body 9.9x3.9mm, Pitch 1.27mm, IPC Low Density)
pins: 1 VCC (power), 2 AOUT (out), 3 AIN (in), 4 BOUT (out), 5 BIN (in), 6 COUT (out), 7 CIN (in), 8 GND (power), 9 DIN (in), 10 DOUT (out), 11 EIN (in), 12 EOUT (out), 13 MODE (in), 14 FIN (in), 15 FOUT (out), 16 VDD (power)